# Altium footprint library 元器件.PCBLIB: 210 footprints (part 12 of 14)
Each footprint in its own frame and in the unit in brackets; x right, y up, seen from the top. Pads: shape width x height; smd on the part's side, far side on the other; paste and mask are expansions set on the pad; w line width, h text height; cw(c..) or ccw(c..) is an arc to the next point about the centre after c.
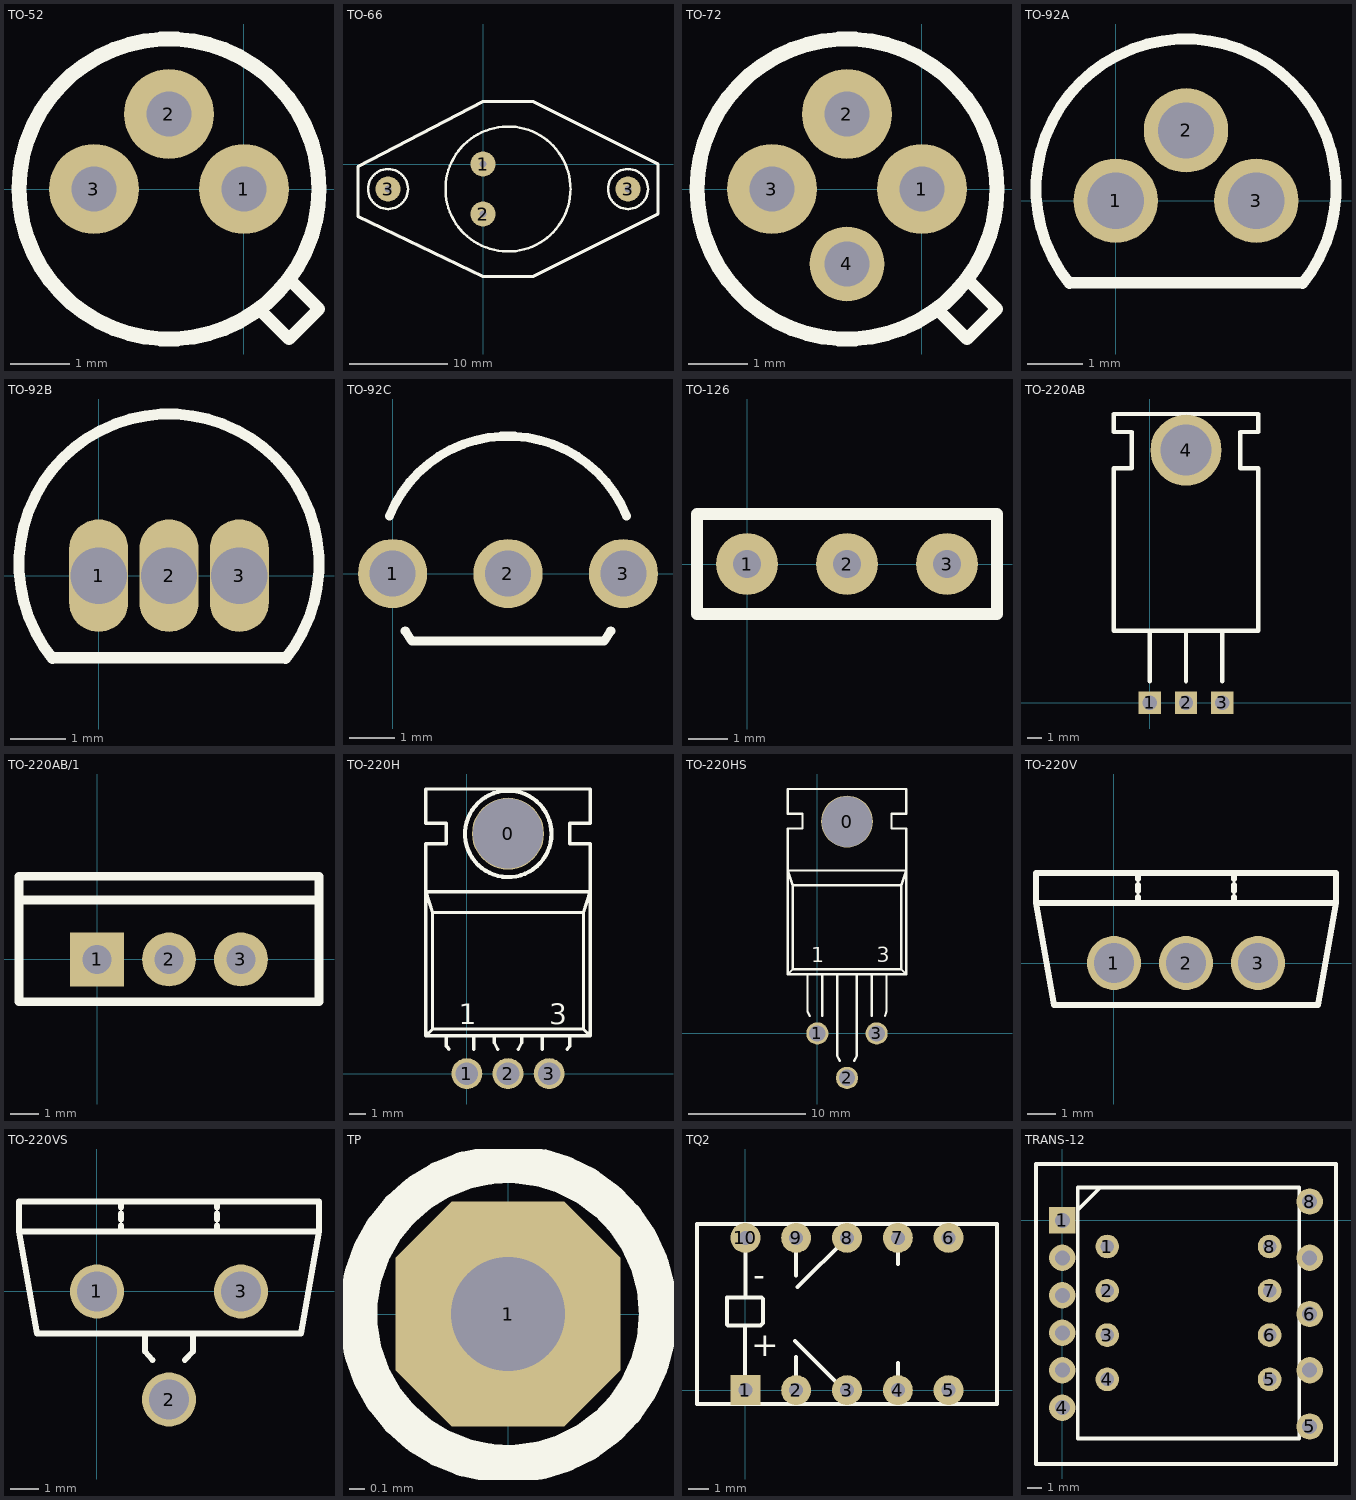
[diagram p11: the footprints below, top view; thin cyan lines are the x and y axes]

## TO-52 [mil]
pads (3):
  round 60 hole 30: 1(0,0) 2(-50,50) 3(-100,0)
TopOverlay:
  circle w10: c-50,0 r100
  lines w8: 10,-80 30,-100 50,-80 30,-60

## TO-66 [mil]
pads (4):
  round 100 hole 28: 1(0,0) 2(0,-200) 3(-380,-100) 3(580,-100)
TopOverlay:
  circle w10: c100,-100 r250
  circle w10: c-380,-100 r80
  circle w10: c580,-100 r80
  lines w12: -500,-210 -500,-10 0,250 200,250 700,0 700,-200 200,-450 0,-450 -500,-210

## TO-72 [mil]
pads (4):
  round 60 hole 30: 1(0,0) 2(-50,50) 3(-100,0)
  round 50 hole 30: 4(-50,-50)
TopOverlay:
  circle w10: c-50,0 r100
  lines w8: 10,-80 30,-100 50,-80 30,-60

## TO-92A [mil]
pads (3):
  round 60 hole 40: 1(0,0) 2(50,50) 3(100,0)
TopOverlay:
  lines w7.87: -33.33,-58.33 133.33,-58.33 ; -32.9,-58.79 cw(c50,8.33) 132.9,-58.79

## TO-92B [mil]
pads (3):
  oval 42x80 hole 40: 1(0,0) 2(50,0) 3(100,0)
TopOverlay:
  lines w7.87: -33.33,-58.33 133.33,-58.33 ; -32.9,-58.79 cw(c50,8.33) 132.9,-58.79

## TO-92C [mil]
pads (3):
  round 60 hole 40: 1(0,0) 2(100,0) 3(200,0)
TopOverlay:
  lines w7.87: -2.76,49.85 cw(c100,8.33) 202.76,49.85 ; 10.92,-49.71 16.67,-58.33 183.33,-58.33 189.08,-49.71

## TO-126 [mil]
pads (3):
  round 62 hole 28: 1(0,0) 2(100,0) 3(200,0)
TopOverlay:
  lines w12: -50,-50 -50,50 250,50 250,-50 -50,-50

## TO-220AB [mil]
pads (4):
  rect 62x62 hole 40: 1(0,0) 2(100,0) 3(200,0)
  round 196.85 hole 141.73: 4(100,700)
TopOverlay:
  lines w12: 0,60 0,200 ; 100,60 100,200 ; 200,60 200,200 ; -100,200 300,200 300,650 250,650 250,750 300,750 300,800 -100,800 -100,750 -50,750 -50,650 -100,650 -100,200

## TO-220AB/1 [mil]
pads (3):
  rect 75x75 hole 40: 1(0,0)
  round 75 hole 40: 2(100,0) 3(200,0)
TopOverlay:
  lines w12: -108.66,82.68 308.66,82.68 ; -108.66,-59.06 -108.66,115.94 308.66,115.94 308.66,-59.06 -108.66,-59.06

## TO-220H [mil]
pads (4):
  round 175 hole 170: 0(100,583.33)
  round 75 hole 55: 1(0,0) 2(100,0) 3(200,0)
TopOverlay:
  circle w10: c100.67,582.53 r105
  lines w7.87: -50,66.67 -50,91.67 ; -48.11,65.41 -43.58,59.05 ; 16.67,59.05 16.67,91.67 ; 66.67,91.67 66.67,75 75,59.05 ; 125,59.05 133.33,75 133.33,91.67 ; 183.33,59.05 183.33,91.67 ; 243.9,59.05 250.31,67.61 ; 250,66.67 250,91.67 ; -100,91.67 -100,558.33 -50,558.33 -50,608.33 -100,608.33 -100,691.67 300,691.67 300,608.33 250,608.33 250,558.33 300,558.33 300,91.67 ; -100,91.67 300,91.67 ; -100,91.67 -83.33,108.33 ; -83.33,108.33 -83.33,391.67 ; -83.33,108.33 283.33,108.33 ; -83.33,391.67 -100,441.67 300,441.67 283.33,391.67 ; -83.33,391.67 283.33,391.67 ; 283.33,108.33 283.33,391.67 ; 283.33,108.33 300,91.67
  text "3" at 200,120 h50
  text "1" at -20,120 h50

## TO-220HS [mil]
pads (4):
  round 175 hole 170: 0(100,715)
  round 75 hole 55: 1(0,0) 2(100,-150) 3(200,0)
TopOverlay:
  lines w7.87: -33.33,200 -33.33,75 -25.8,59.05 ; 16.67,59.05 16.67,200 ; 66.67,200 66.67,-75 75.46,-92.13 ; 124.54,-92.27 133.33,-75 133.33,200 ; 183.33,59.05 183.33,200 ; 228,59.05 233.33,75 233.33,200 ; -100,200 -83.33,216.67 ; -100,200 300,200 ; -100,200 -100,691.67 -50,691.67 -50,741.67 -100,741.67 -100,825 300,825 300,741.67 250,741.67 250,691.67 300,691.67 300,591.67 300,200 ; -83.33,216.67 283.33,216.67 ; -83.33,216.67 -83.33,500 ; -83.33,500 283.33,500 ; -83.33,500 -100,550 300,550 283.33,500 ; 283.33,216.67 283.33,500 ; 283.33,216.67 300,200
  text "1" at -20,240 h50
  text "3" at 200,240 h50

## TO-220V [mil]
pads (3):
  round 75 hole 55: 1(0,0) 2(100,0) 3(200,0)
TopOverlay:
  lines w7.87: 33.33,83.33 33.33,91.67 ; 33.33,100 33.33,108.33 ; 33.33,116.67 33.33,125 ; 166.67,83.33 166.67,91.67 ; 166.67,100 166.67,108.33 ; 166.67,116.67 166.67,125 ; -108.33,83.33 -108.33,125 308.33,125 308.33,83.33 ; -108.33,83.33 -83.33,-58.33 283.33,-58.33 308.33,83.33 ; -108.33,83.33 308.33,83.33

## TO-220VS [mil]
pads (3):
  round 75 hole 55: 1(0,0) 2(100,-150) 3(200,0)
TopOverlay:
  lines w7.87: 33.33,83.33 33.33,91.67 ; 33.33,100 33.33,108.33 ; 33.33,116.67 33.33,125 ; 66.67,-58.33 66.67,-83.33 77.03,-95.12 ; 122.02,-95.12 133.33,-83.33 133.33,-58.33 ; 166.67,83.33 166.67,91.67 ; 166.67,100 166.67,108.33 ; 166.67,116.67 166.67,125 ; -108.33,83.33 308.33,83.33 ; -108.33,83.33 -83.33,-58.33 283.33,-58.33 308.33,83.33 ; -108.33,83.33 -108.33,125 308.33,125 308.33,83.33

## TP [mm]
pads (1):
  oct 1.5x1.5 hole 0.762: 1(0,0)
TopOverlay:
  circle w0.254: c0,0 r1

## TQ2 [mm]
pads (10):
  rect 1.5x1.5 hole 0.7: 1(0,0)
  round 1.5 hole 0.7: 2(2.54,0) 3(5.08,0) 4(7.62,0) 5(10.16,0) 6(10.16,7.62) 7(7.62,7.62) 8(5.08,7.62) 9(2.54,7.62) 10(0,7.62)
TopOverlay:
  lines w0.2: -0.025,0.75 -0.025,3.225 ; 0,4.7 0,7.62 ; 2.475,2.45 4.925,0 ; 2.54,0 2.54,1.265 2.54,1.665 ; 2.54,5.735 2.54,6.335 2.54,7.62 ; 2.6,5.15 5.07,7.62 ; 7.62,0 7.62,1.355 ; 7.62,6.305 7.62,7.62 ; -2.42,-0.69 -2.42,8.31 12.58,8.31 12.58,-0.69 -2.42,-0.69 ; -0.925,3.275 -0.925,4.625 0.8,4.625 0.875,4.55 0.875,3.35 0.75,3.225 -0.875,3.225 -0.925,3.275
  text "-" at 0.4,5.2 h1.2
  text "+" at 0.3,1.7 h1.2

## TRANS-12 [mil]
pads (19):
  rect 70x70 hole 40: 1(0,0)
  round 62.99 hole 35.43: 1(120,-70) 2(120,-188.11) 3(120,-306.22) 4(120,-424.33) 5(553.07,-424.33) 6(553.07,-306.22) 7(553.07,-188.11) 8(553.07,-70)
  round 70 hole 40: 4(0,-500) 5(660,-550) 6(660,-250) 8(660,50) ""(0,-400) ""(0,-300) ""(0,-200) ""(0,-100) ""(660,-400) ""(660,-100)
TopOverlay:
  lines w10: 41.26,27.48 101.26,87.48 121.26,87.48 ; -70,-650 730,-650 730,150 -70,150 -70,-650 ; 41.26,-581.81 41.26,87.48 631.81,87.48 631.81,-581.81 41.26,-581.81